# EAGLE library part BNO085 (library BNO085)
Board Mount Motion & Position Sensors 9-axis IMU Source: Datasheet <https://www.ceva-dsp.com/wp-content/uploads/2019/10/BNO080_085-Datasheet.pdf>
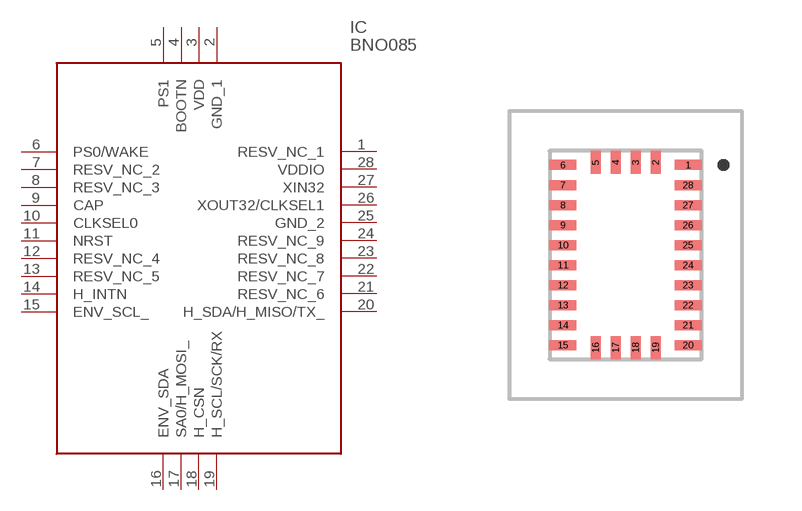
[diagram p0: symbol with the pads of BNO085; footprint BNO085]

Designator prefix IC

## BNO085 (Description: Board Mount Motion & Position Sensors 9-axis IMU; Height: 1.18mm; Manufacturer_Name: CEVA; Manufacturer_Part_Number: BNO085; Mouser_Part_Number: 526-BNO085; Mouser_Price-Stock: https://www.mouser.co.uk/ProductDetail/CEVA/BNO085?qs=ulEaXIWI0c9BFVeZDQCmmQ%3D%3D)  [BNO085]
1  RESV_NC_1
2  GND_1
3  VDD
4  BOOTN
5  PS1
6  PS0/WAKE
7  RESV_NC_2
8  RESV_NC_3
9  CAP
10  CLKSEL0
11  NRST
12  RESV_NC_4
13  RESV_NC_5
14  H_INTN
15  ENV_SCL_
16  ENV_SDA
17  SA0/H_MOSI_
18  H_CSN
19  H_SCL/SCK/RX
20  H_SDA/H_MISO/TX_
21  RESV_NC_6
22  RESV_NC_7
23  RESV_NC_8
24  RESV_NC_9
25  GND_2
26  XOUT32/CLKSEL1
27  XIN32
28  VDDIO

## Footprint BNO085 (pad centres in mm)
BNO085-3
smd 0.675 x 0.25: 1 1.563,2.25; 6 -1.563,2.25; 7 -1.563,1.75; 8 -1.563,1.25; 9 -1.563,0.75; 10 -1.563,0.25; 11 -1.563,-0.25; 12 -1.563,-0.75; 13 -1.563,-1.25; 14 -1.563,-1.75; 15 -1.563,-2.25; 20 1.563,-2.25; 21 1.563,-1.75; 22 1.563,-1.25; 23 1.563,-0.75; 24 1.563,-0.25; 25 1.563,0.25; 26 1.563,0.75; 27 1.563,1.25; 28 1.563,1.75
smd 0.25 x 0.575: 2 0.75,2.313; 3 0.25,2.313; 4 -0.25,2.313; 5 -0.75,2.313; 16 -0.75,-2.313; 17 -0.25,-2.313; 18 0.25,-2.313; 19 0.75,-2.313